# EAGLE library part MAX4337 (library maxim)
50mA IOUT, Rail-to-Rail I/O Op Amp Source: http://datasheets.maxim-ic.com/en/ds/MAX4335-MAX4338.pdf
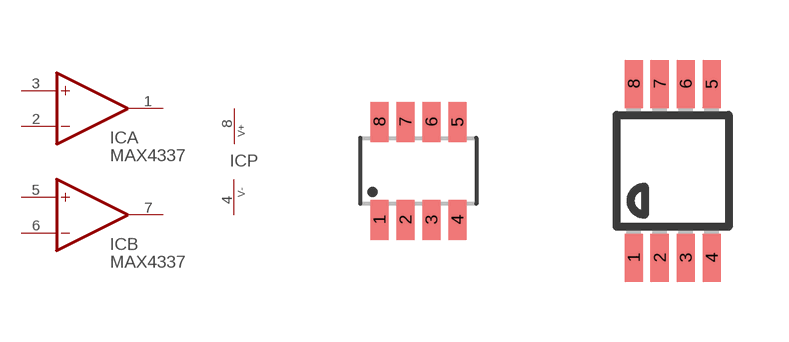
[diagram p255: symbol with the pads of SOT23-8L; footprints SOT23-8L, UMAX8]

Designator prefix IC; gates A=OP B=OP P=PWR+-

## MAX4337EKA-T (MPN: MAX4337EKA+T; OC_FARNELL: unknown; OC_NEWARK: 57K8868)  [SOT23-8L]
1  A:OUT  out
2  A:-IN  in
3  A:+IN  in
4  P:V-  pwr
5  B:+IN  in
6  B:-IN  in
7  B:OUT  out
8  P:V+  pwr

## MAX4337EUA (OC_FARNELL: unknown; OC_NEWARK: unknown)  [UMAX8]
Pads as for SOT23-8L

## Footprint SOT23-8L (pad centres in mm)
SC70/SOT23-8 Source: http://datasheets.maxim-ic.com/en/ds/MAX4335-MAX4338.pdf
smd 0.45 x 1: 1 -0.975,-1.225; 2 -0.325,-1.225; 3 0.325,-1.225; 4 0.975,-1.225; 5 0.975,1.225; 6 0.325,1.225; 7 -0.325,1.225; 8 -0.975,1.225

## Footprint UMAX8 (pad centres in mm)
micro MAX Package
smd 0.45 x 1.2: 1 -0.975,-2.175; 2 -0.325,-2.175; 3 0.325,-2.175; 4 0.975,-2.175; 5 0.975,2.175; 6 0.325,2.175; 7 -0.325,2.175; 8 -0.975,2.175